# Altium schematic symbol library Switch.SchLib: 8 symbols
Pins are listed as number, name and electrical type; pins without a type are passive.

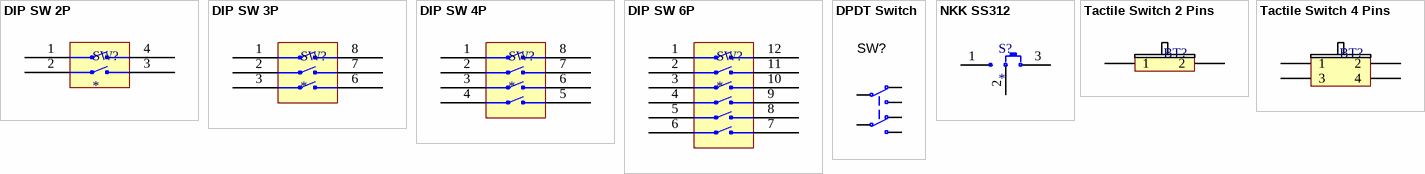
[diagram p0: symbols DIP SW 2P to Tactile Switch 4 Pins]

## DIP SW 2P
designator SW?
pins: 1 GND, 2 GND, 3 GND, 4 GND

## DIP SW 3P
designator SW?
footprint DIPSWITCH-3 - RIGHT
pins: 1 GND, 2 GND, 3 GND, 6, 7, 8

## DIP SW 4P
designator SW?
footprint DIPSWITCH-4 - RIGHT
pins: 1, 2, 3, 4, 5, 6, 7, 8

## DIP SW 6P
designator SW?
pins: 1 GND, 2 GND, 3 GND, 4 GND, 5, 6, 7, 8, 9, 10, 11, 12

## DPDT Switch
designator SW?
Switch THD right-angle toggle DPDT
footprint SK-22D01-MG 5 NS
pins: 1, 2, 3, 4, 5, 6

## NKK SS312
designator S?
pins: 1, 2 COM, 3

## Tactile Switch 2 Pins
designator BT?
Button, 2 pin
footprint TACT-SWITCH-BUTTON 2
footprint TACT-SWITCH-BUTTON 2 PIN
footprint TACT-SWITCH-Carbon Button Circular (Sillicone rubber keypad. 9 mm R)
footprint TACT-SWITCH-Carbon Button Rectange (Sillicone rubber keypad. 5.1 x 4.2 mm)
footprint TACT-SWITCH-B3U-1000P
pins: 1, 2

## Tactile Switch 4 Pins
designator BT?
Button, 2 pin
footprint TACT-SWITCH-BUTTON
footprint TACT-SWITCH-BUTTON 4 PIN (4pin EKO'da kullanılan Buton)
footprint TACT-SWITCH-Right Angle (Mando Tactile Button)
footprint TACT-SWITCH-TC-37XB (Wealth Metal sealed TH tact switch)
footprint TACT-SWITCH-TL-1105-C (E-Switch TL1105 series tact switch 8.0mm stem height)
footprint TACT-SWITCH-TS1143 (Bondtact sealed TH tact switch)
footprint TACT-SWITCH-TS1150 (Bondtact sealed TH tact switch)
footprint TACT-SWITCH-TS1170 (Bondtact sealed TH tact switch)
footprint TACT-SWITCH-TL-3305
footprint TACT-SWITCH-TS05-66 (TS05-66-43-BK-260-SMT-67)
pins: 1, 2, 3, 4